# Altium footprint library Resistor_SMD.PcbLib: 4 footprints
Each footprint in its own frame and in the unit in brackets; x right, y up, seen from the top. Pads: shape width x height; smd on the part's side, far side on the other; paste and mask are expansions set on the pad; w line width, h text height; cw(c..) or ccw(c..) is an arc to the next point about the centre after c.
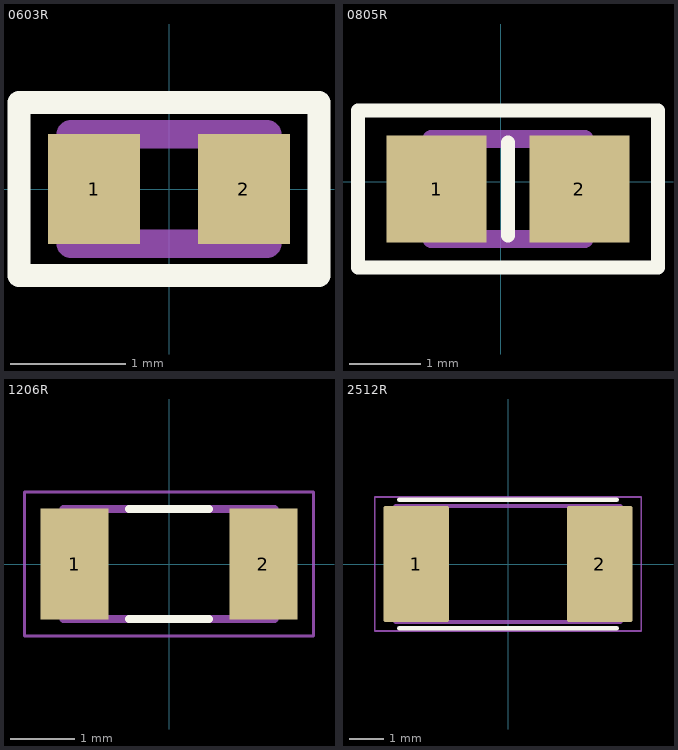
[diagram p0: the footprints below, top view; thin cyan lines are the x and y axes]

## 0603R [mm] "Chip Resistor, 2-Leads, Body 1.60x0.85mm, IPC Medium Density"
height 0.5
pads (2):
  rect 0.8x0.95 smd: 1(-0.65,0) 2(0.65,0)
Top Overlay:
  lines w0.2: -1.3,-0.75 -1.3,0.75 1.3,0.75 1.3,-0.75 -1.3,-0.75
Mechanical 4:
  lines w0.25: -0.85,-0.475 -0.85,0.475 0.85,0.475 0.85,-0.475 -0.85,-0.475
  text ".Designator" at -2.4,1.4 h2.15
3D body "NTC-0603-T0.9.stp": height 0.9, standoff 0, extent -0.875,-0.475 0.875,0.475

## 0805R [mm]
pads (2):
  rect 1.4x1.5 smd: 1(-0.9,-0.1) 2(1.1,-0.1)
Top Overlay:
  lines w0.2: 0.1,-0.75 0.1,0.55 ; -2,-1.2 2.2,-1.2 2.2,1 -2,1 -2,-1.2
Mechanical 4:
  lines w0.25: -0.975,-0.8 -0.975,0.6 1.175,0.6 1.175,-0.8 -0.975,-0.8
  text ".Designator" at -1.4,1.8 h2.15
3D body "User Library-Chip Resistor2.step": height 0.5, standoff 0, extent -0.9,-0.7 1.1,0.5

## 1206R [mm]
pads (2):
  rect 1.05x1.72 smd: 1(-1.46,0) 2(1.46,0)
Top Overlay:
  lines w0.127: -0.62,-0.85 0.62,-0.85 ; -0.62,0.85 0.62,0.85
Mechanical 13:
  lines w0.127: -1.63,-0.85 -1.63,0.85 1.63,0.85 1.63,-0.85 -1.63,-0.85
Mechanical 15:
  lines w0.05: -2.235,-1.112 -2.235,1.112 2.235,1.112 2.235,-1.112 -2.235,-1.112
3D body "CRGCQ1206F39K.STEP": height 0.65, standoff 0, extent -1.55,-0.775 1.55,0.775

## 2512R [mm]
pads (2):
  rrect7% 1.9x3.37 smd: 1(-2.66,0) 2(2.66,0)
Top Overlay:
  lines w0.127: -3.15,-1.865 3.15,-1.865 ; -3.15,1.865 3.15,1.865
Mechanical 13:
  lines w0.127: -3.25,-1.68 -3.25,1.68 3.25,1.68 3.25,-1.68 -3.25,-1.68
Mechanical 15:
  lines w0.05: -3.86,-1.94 -3.86,1.94 3.86,1.94 3.86,-1.94 -3.86,-1.94
3D body "3-2176058-0.STEP": height 0.65, standoff 0, extent -3.175,-1.6 3.175,1.6